# Altium schematic symbol library DIOD.SchLib: 1 symbol
Pins are listed as number, name and electrical type; pins without a type are passive.

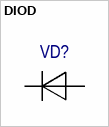
[diagram p0: symbol DIOD]

## DIOD
designator VD?
ManufacturerPartNumber: ManufacturerPartNumber
pins: A, K